# Altium schematic symbol library LM4040.SchLib: 1 symbol
Pins are listed as number, name and electrical type; pins without a type are passive.

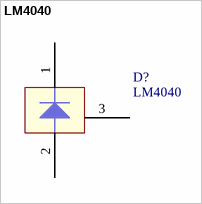
[diagram p0: symbol LM4040]

## LM4040
designator D?
IC, Reference
pins: 1 +, 2 +, 3 +